# Altium schematic symbol library Main Board SCH Lib.SchLib: 19 symbols
Pins are listed as number, name and electrical type; pins without a type are passive.

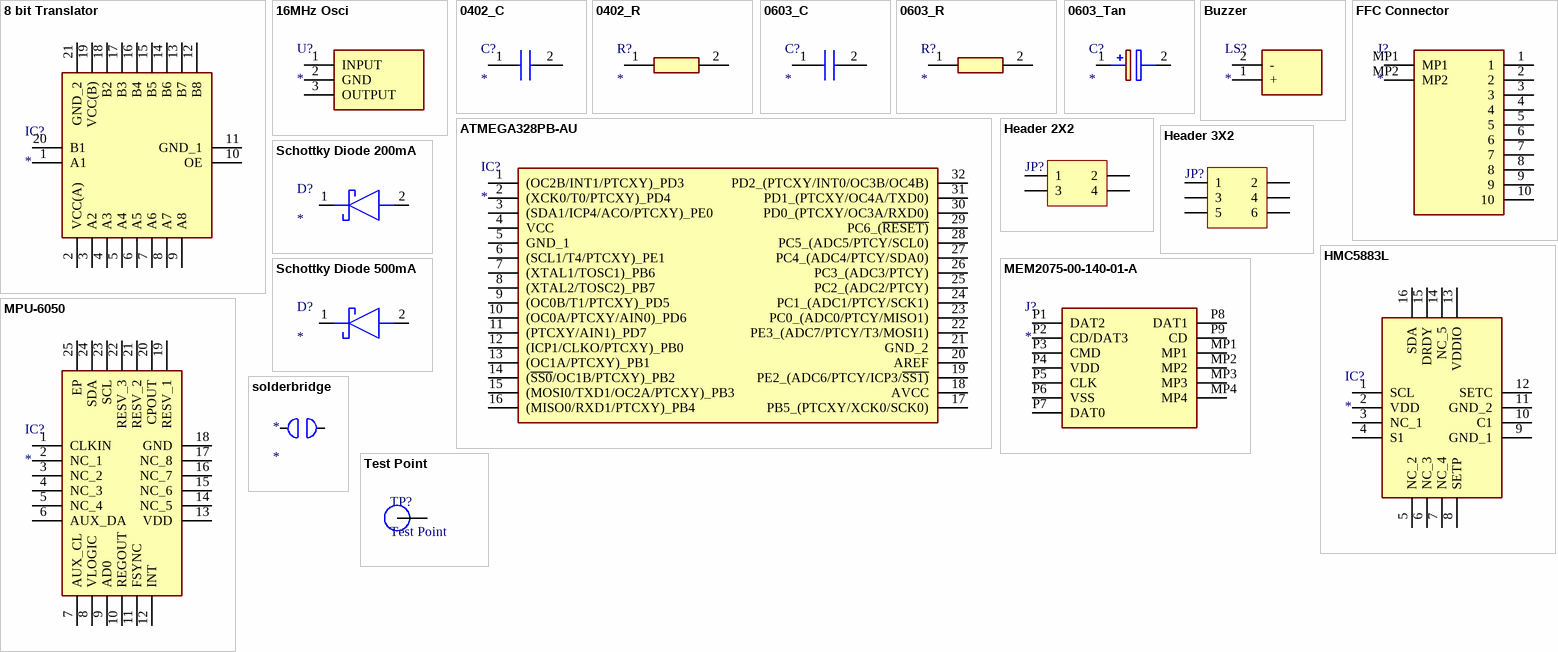
[diagram p0: symbols 8 bit Translator to Test Point]

## 8 bit Translator
designator IC?
Integrated Circuit; Manufacturer_Name: Nexperia; Manufacturer_Part_Number: NXB0108BQX; Datasheet Link: https://assets.nexperia.com/documents/data-sheet/NXB0108.pdf; Height: 1mm
footprint NXB0108BQX
pins: 1 A1, 2 VCC(A), 3 A2, 4 A3, 5 A4, 6 A5, 7 A6, 8 A7, 9 A8, 10 OE, 11 GND_1, 12 B8, 13 B7, 14 B6, 15 B5, 16 B4, 17 B3, 18 B2, 19 VCC(B), 20 B1, 21 GND_2

## 16MHz Osci
designator U?
Undefined or Miscellaneous; Manufacturer_Name: Murata Electronics; Manufacturer_Part_Number: CSTNE16M0V530000R0; Datasheet Link: https://componentsearchengine.com//CSTNE16M0V530000R0.pdf; Height: 1mm; Mouser2 Part Number: 81-CSTNE16M0V530000R; Mouser2 Price/Stock: https://www.mouser.com/Search/Refine.aspx?Keyword=81-CSTNE16M0V530000R
footprint CSTNE16M0V530000R0
pins: 1 INPUT, 2 GND, 3 OUTPUT

## 0402_C
designator C?
Capacitor; Manufacturer_Name: Kemet; Manufacturer_Part_Number: C0402C474K8RACTU; Datasheet Link: https://content.kemet.com/datasheets/KEM_C1002_X7R_SMD.pdf; Height: 0.55mm
footprint CAPC1005X55N
pins: 1, 2

## 0402_R
designator R?
Resistor; Manufacturer_Name: Panasonic; Manufacturer_Part_Number: ERA-2ARB472X; Datasheet Link: http://industrial.panasonic.com/cdbs/www-data/pdf/RDM0000/AOA0000C307.pdf; Height: 0.4mm
footprint ERA2A_(0402)
pins: 1, 2

## 0603_C
designator C?
Capacitor; Manufacturer_Name: Vishay; Manufacturer_Part_Number: VJ0603HIFRQ1KIT; Datasheet Link: http://www.vishay.com/docs/45226/vj31xrohsautomlcc.pdf; Height: 0.97mm
footprint CAPC1608X97N
pins: 1, 2

## 0603_R
designator R?
Resistor; Manufacturer_Name: Panasonic; Manufacturer_Part_Number: ERA-3KEB2403V; Datasheet Link: http://industrial.panasonic.com/cdbs/www-data/pdf/RDM0000/RDM0000C331.pdf; Height: 0.4mm
footprint ERA3KV_(0603)
pins: 1, 2

## 0603_Tan
designator C?
Capacitor Polarised; Manufacturer_Name: Vishay; Manufacturer_Part_Number: TMCJ0J475MTRF; Datasheet Link: https://componentsearchengine.com/Datasheets/1/TMCJ0J475MTRF.pdf; Height: 0.9mm
footprint CAPPM168X90N
pins: 1 +, 2 -

## ATMEGA328PB-AU
designator IC?
Integrated Circuit; Manufacturer_Name: Microchip; Manufacturer_Part_Number: ATMEGA328PB-AU; Datasheet Link: https://componentsearchengine.com//ATMEGA328PB-AU.pdf; Height: 1.2mm; Mouser2 Part Number: 556-ATMEGA328PB-AU; Mouser2 Price/Stock: https://www.mouser.com/Search/Refine.aspx?Keyword=556-ATMEGA328PB-AU
footprint QFP80P900X900X120-32N
pins: 1 (OC2B/INT1/PTCXY)_PD3, 2 (XCK0/T0/PTCXY)_PD4, 3 (SDA1/ICP4/ACO/PTCXY)_PE0, 4 VCC, 5 GND_1, 6 (SCL1/T4/PTCXY)_PE1, 7 (XTAL1/TOSC1)_PB6, 8 (XTAL2/TOSC2)_PB7, 9 (OC0B/T1/PTCXY)_PD5, 10 (OC0A/PTCXY/AIN0)_PD6, 11 (PTCXY/AIN1)_PD7, 12 (ICP1/CLKO/PTCXY)_PB0, 13 (OC1A/PTCXY)_PB1, 14 (~{SS0}/OC1B/PTCXY)_PB2, 15 (MOSI0/TXD1/OC2A/PTCXY)_PB3, 16 (MISO0/RXD1/PTCXY)_PB4, 17 PB5_(PTCXY/XCK0/SCK0), 18 AVCC, 19 PE2_(ADC6/PTCY/ICP3/~{SS1)}, 20 AREF, 21 GND_2, 22 PE3_(ADC7/PTCY/T3/MOSI1), 23 PC0_(ADC0/PTCY/MISO1), 24 PC1_(ADC1/PTCY/SCK1), 25 PC2_(ADC2/PTCY), 26 PC3_(ADC3/PTCY), 27 PC4_(ADC4/PTCY/SDA0), 28 PC5_(ADC5/PTCY/SCL0), 29 PC6_(~{RESET)}, 30 PD0_(PTCXY/OC3A/RXD0), 31 PD1_(PTCXY/OC4A/TXD0), 32 PD2_(PTCXY/INT0/OC3B/OC4B)

## Buzzer
designator LS?
Loudspeaker or Buzzer; Manufacturer_Name: CUI Inc.; Manufacturer_Part_Number: CPT-12123-81-SMT-TR; Datasheet Link: https://www.cuidevices.com/product/resource/cpt-12123-81-smt-tr.pdf; Height: 3.3mm
footprint CPT1212381SMTTR
pins: 1 +, 2 -

## FFC Connector
designator J?
Connector; Manufacturer_Name: Molex; Manufacturer_Part_Number: 52892-1033; Datasheet Link: https://componentsearchengine.com/Datasheets/2/52892-1033.pdf; Height: 2mm
footprint 528921033
pins: 1, 2, 3, 4, 5, 6, 7, 8, 9, 10, MP1, MP2

## Header 2X2
designator JP?, comment Header2X2  (value not drawn)
Header 2X2; BOM名称: 2*2P接插件; 版权归属: 源创客; 学习资源: www.ooocke.com
footprint HDR2.54-LI-2x2P (双排排针，2x2脚)
pins: 1, 2, 3, 4

## Header 3X2
designator JP?, comment Header3X2  (value not drawn)
BOM名称: 3*2P接插件; 版权归属: 源创客; 学习资源: www.ooocke.com
footprint HDR2.54-LI-2x3P (双排排针，3x2脚)
pins: 1, 2, 3, 4, 5, 6

## HMC5883L
designator IC?
Integrated Circuit; Manufacturer_Name: Honeywell; Manufacturer_Part_Number: HMC5883L; Datasheet Link: http://www.farnell.com/datasheets/1683374.pdf; Height: 0.9mm
footprint HMC5883L
pins: 1 SCL, 2 VDD, 3 NC_1, 4 S1, 5 NC_2, 6 NC_3, 7 NC_4, 8 SETP, 9 GND_1, 10 C1, 11 GND_2, 12 SETC, 13 VDDIO, 14 NC_5, 15 DRDY, 16 SDA

## MEM2075-00-140-01-A
designator J?
Connector; Manufacturer_Name: GCT (GLOBAL CONNECTOR TECHNOLOGY); Manufacturer_Part_Number: MEM2075-00-140-01-A; Height: 1.45mm
footprint MEM20750014001A
pins: MP1, MP2, MP3, MP4, P1 DAT2, P2 CD/DAT3, P3 CMD, P4 VDD, P5 CLK, P6 VSS, P7 DAT0, P8 DAT1, P9 CD

## MPU-6050
designator IC?
Integrated Circuit; Manufacturer_Name: TDK; Datasheet Link: https://invensense.tdk.com/wp-content/uploads/2015/02/MPU-6000-Datasheet1.pdf; Height: 0.95mm; Manufacturer_Part_Number: MPU-6050
footprint MPU6050
pins: 1 CLKIN, 2 NC_1, 3 NC_2, 4 NC_3, 5 NC_4, 6 AUX_DA, 7 AUX_CL, 8 VLOGIC, 9 AD0, 10 REGOUT, 11 FSYNC, 12 INT, 13 VDD, 14 NC_5, 15 NC_6, 16 NC_7, 17 NC_8, 18 GND, 19 RESV_1, 20 CPOUT, 21 RESV_2, 22 RESV_3, 23 SCL, 24 SDA, 25 EP

## Schottky Diode 200mA
designator D?
Schottky Diode; Manufacturer_Name: ROHM Semiconductor; Manufacturer_Part_Number: RB531SM-30FHT2R; Datasheet Link: https://componentsearchengine.com/Datasheets/2/RB531SM-30FHT2R.pdf; Height: 0.7mm
footprint SODFL1608X70N
pins: 1 K, 2 A

## Schottky Diode 500mA
designator D?
Schottky Diode; Manufacturer_Name: Comchip Technology; Manufacturer_Part_Number: CDBU0520; Datasheet Link: https://componentsearchengine.com//CDBU0520.pdf; Height: 0.85mm; Mouser2 Part Number: 750-CDBU0520; Mouser2 Price/Stock: https://www.mouser.com/Search/Refine.aspx?Keyword=750-CDBU0520
footprint DIOC1709X85N
pins: 1 K, 2 A

## solderbridge
designator *
footprint Solderbridge
pins: 1 0, 2 1

## Test Point
designator TP?
footprint TP_SMD_D1.0mm
pins: 1